# Altium schematic symbol library Connector.SchLib: 55 symbols
Pins are listed as number, name and electrical type; pins without a type are passive.

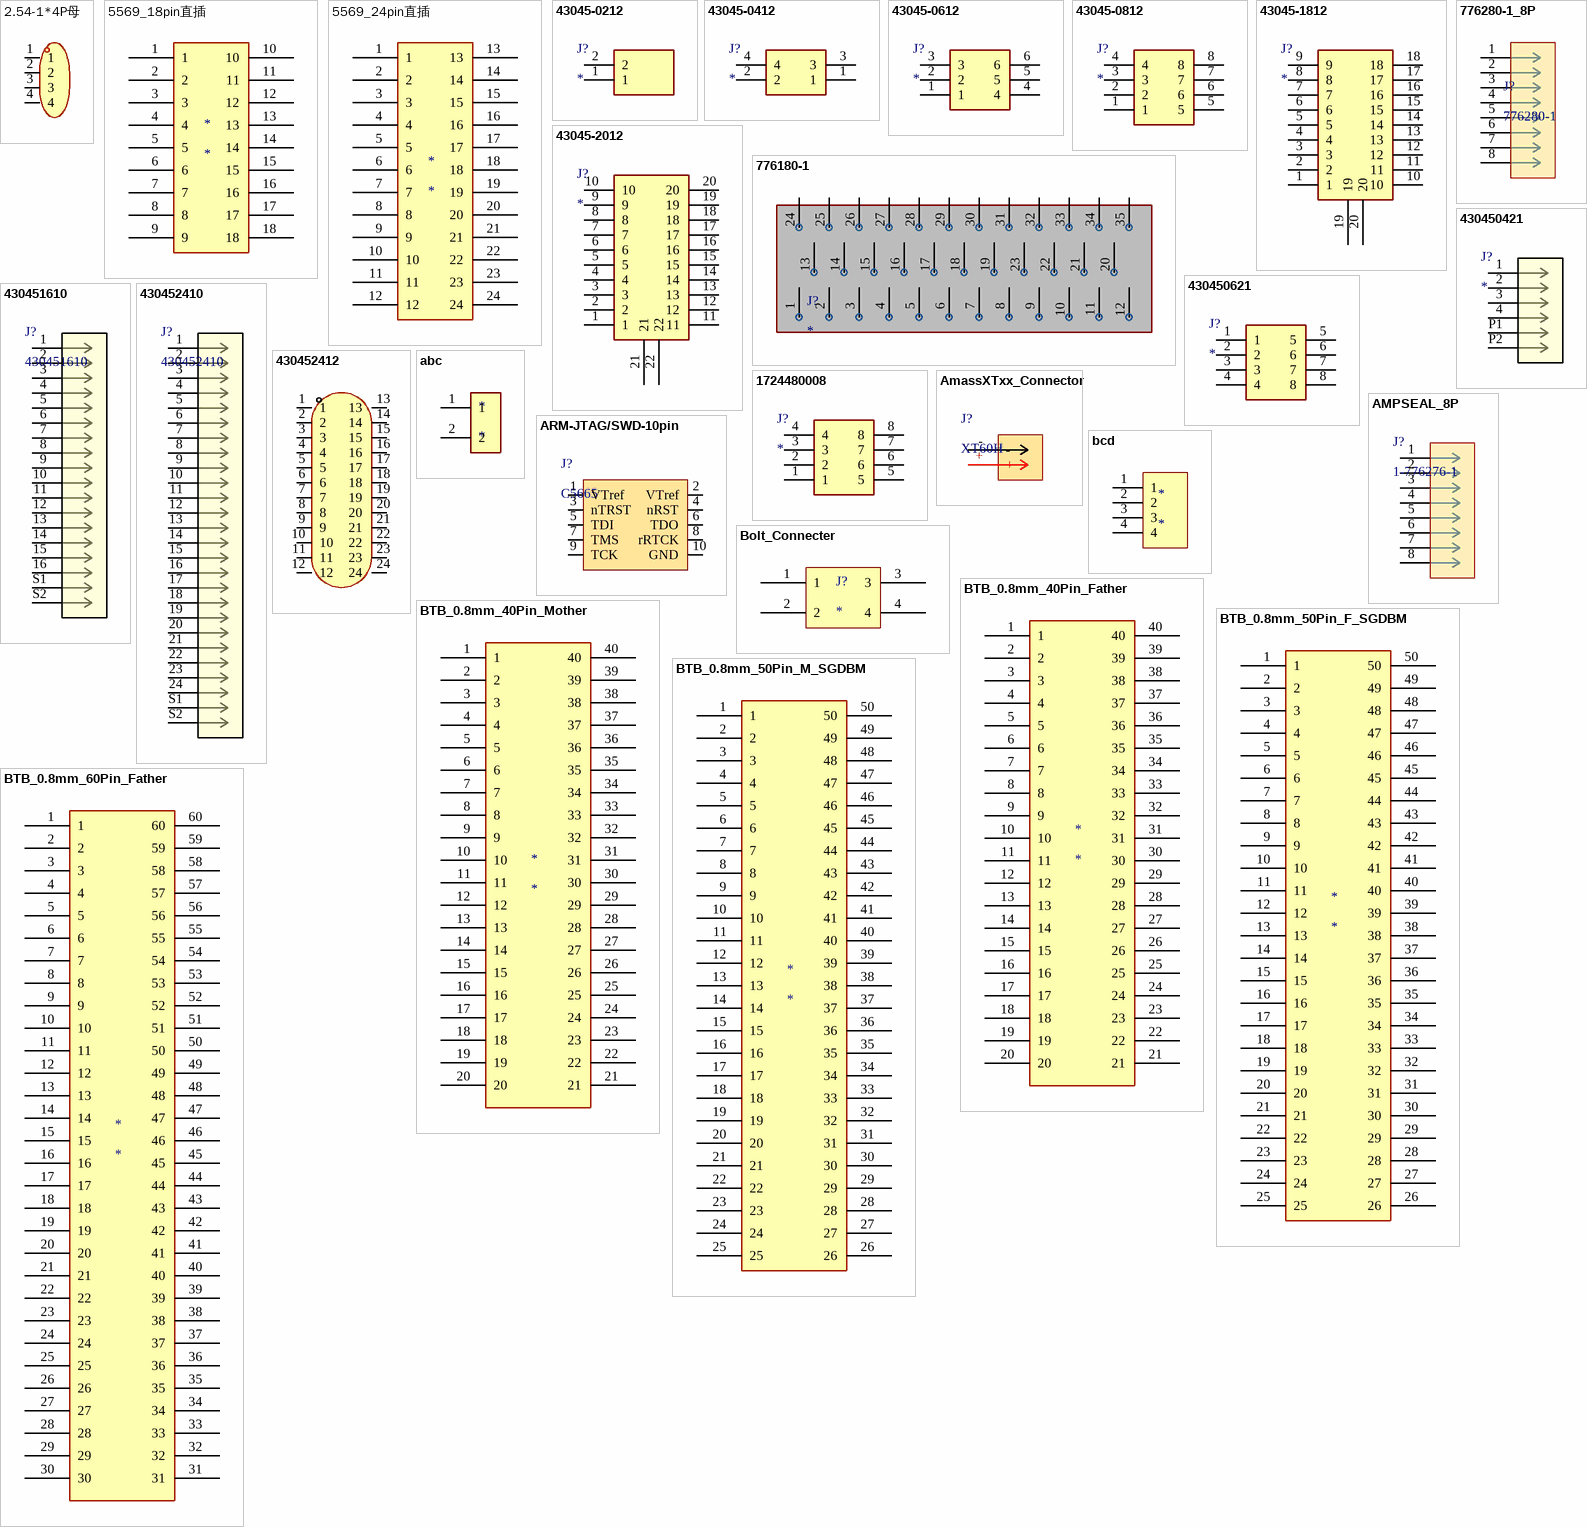
[diagram p0: symbols 2.54-1*4P母 to BTB_0.8mm_60Pin_Father]

## 2.54-1*4P母
designator H??  (value not drawn)
立创编号：C2718488; Manufacturer: BOOMELE(博穆精密); Add into BOM: yes; Holes Structure: 1x4P; Pitch: 2.54mm; Circular Hole / Square Hole: 方孔; Number of Holes: 4P; Current Rating (Max): 3A; Holes Direction: 顶部; Symbol: 2.54-1*4P母; Device: 2.54-1*4P母; Supplier: LCSC; Supplier Part: C2718488; Manufacturer Part: 2.54-1*4P母; JLCPCB Part Class: Extended Part; LCSC Part Name: 间距:2.54mm 1x4P 直插; Supplier Footprint: 插件,P=2.54mm; Datasheet: https://atta.szlcsc.com/upload/public/pdf/source/20210301/C2718488_F4427B881E42CAA8DDB0B1C12B3A522C.pdf; Convert to PCB: yes; Row Spacing: -; Mounting Type: 直插; Number of Rows: 单排; Voltage Rating (Max): -; Insulation Height: -; Contact Material: 青铜; Contact Plating: -; Operating Temperature Range: -40℃~+105℃; Soldering Temperature(Max): -
footprint HDR-TH_4P-P2.54-V-F
pins: 1, 2, 3, 4

## 5569_18pin直插
designator *
footprint 5569_18Pin (5569直插18PIN)
pins: 1, 2, 3, 4, 5, 6, 7, 8, 9, 10, 11, 12, 13, 14, 15, 16, 17, 18

## 5569_24pin直插
designator *
footprint 5569_24PIN (5569直插24pin)
pins: 1, 2, 3, 4, 5, 6, 7, 8, 9, 10, 11, 12, 13, 14, 15, 16, 17, 18, 19, 20, 21, 22, 23, 24

## 43045-0212
designator J?
Connector; Manufacturer_Name: Molex; Manufacturer_Part_Number: 43045-0212; Datasheet Link: https://www.molex.com/pdm_docs/sd/430450612_sd.pdf; Height: 9.91mm; Mouser Part Number: 538-430-45-0212; Mouser Price/Stock: https://www.mouser.co.uk/ProductDetail/Molex/43045-0212?qs=QtQX4uD3c2XFLtjr%252BHeRmQ%3D%3D
footprint 43045-02YY_121314
pins: 1, 2

## 43045-0412
designator J?
Connector; Manufacturer_Name: Molex; Manufacturer_Part_Number: 43045-0412; Datasheet Link: https://www.molex.com/pdm_docs/sd/430450612_sd.pdf; Height: 9.91mm; Mouser Part Number: 538-43045-0412; Mouser Price/Stock: https://www.mouser.co.uk/ProductDetail/Molex/43045-0412?qs=UeCeOHRHQebPBbEMDLocEw%3D%3D; Arrow Part Number: 43045-0412; Arrow Price/Stock: http://www.arrow.com/en/products/43045-0412/molex
footprint 43045-04YY_121314
pins: 1, 2, 3, 4

## 43045-0612
designator J?
Connector; Manufacturer_Name: Molex; Manufacturer_Part_Number: 43045-0612; Datasheet Link: https://www.molex.com/pdm_docs/sd/430450612_sd.pdf; Height: 9.91mm; Mouser Part Number: 538-43045-0612; Mouser Price/Stock: https://www.mouser.co.uk/ProductDetail/Molex/43045-0612?qs=KC2ywxza1kqWo9LLJ5Lh3w%3D%3D; Arrow Part Number: 43045-0612; Arrow Price/Stock: https://www.arrow.com/en/products/43045-0612/molex?region=nac
footprint 43045-06YY_121314
pins: 1, 2, 3, 4, 5, 6

## 43045-0812
designator J?
Connector; Manufacturer_Name: Molex; Manufacturer_Part_Number: 43045-0812; Datasheet Link: https://www.molex.com/pdm_docs/sd/430450612_sd.pdf; Height: 9.91mm; Mouser Part Number: 538-43045-0812; Mouser Price/Stock: https://www.mouser.co.uk/ProductDetail/Molex/43045-0812?qs=qjii0NTOo%252B4%252BsykjI9icjA%3D%3D; Arrow Part Number: 43045-0812; Arrow Price/Stock: https://www.arrow.com/en/products/43045-0812/molex?region=nac
footprint 43045-08YY_121314
pins: 1, 2, 3, 4, 5, 6, 7, 8

## 43045-1812
designator J?
Connector; Manufacturer_Name: Molex; Manufacturer_Part_Number: 43045-1812; Datasheet Link: https://www.molex.com/pdm_docs/sd/430450612_sd.pdf; Height: 9.91mm; Mouser Part Number: 538-43045-1812; Mouser Price/Stock: https://www.mouser.co.uk/ProductDetail/Molex/43045-1812?qs=mrPiglD9aYKqQsv7cU%2F4pg%3D%3D
footprint 43045-18YY_121314
pins: 1, 2, 3, 4, 5, 6, 7, 8, 9, 10, 11, 12, 13, 14, 15, 16, 17, 18, 19, 20

## 43045-2012
designator J?
Connector; Manufacturer_Name: Molex; Manufacturer_Part_Number: 43045-2012; Datasheet Link: https://www.molex.com/pdm_docs/sd/430450612_sd.pdf; Height: 9.91mm; Mouser Part Number: 538-43045-2012; Mouser Price/Stock: https://www.mouser.co.uk/ProductDetail/Molex/43045-2012?qs=UeCeOHRHQeaNtH3DnNjSvA%3D%3D
footprint 43045-20YY_121314
pins: 1, 2, 3, 4, 5, 6, 7, 8, 9, 10, 11, 12, 13, 14, 15, 16, 17, 18, 19, 20, 21, 22

## 776180-1
designator J?
Connector ampseal 35pin; Manufacturer_Name: TE Connectivity; Manufacturer_Part_Number: 1-776180-1; Datasheet Link: https://datasheet.datasheetarchive.com/originals/distributors/Datasheets-DGA22/2139312.pdf; Height: 28.6mm; Mouser Part Number: 571-1-776180-1; Mouser Price/Stock: https://www.mouser.co.uk/ProductDetail/TE-Connectivity-AMP/1-776180-1?qs=3aug5cyrIbeXXPMJFPzneQ%3D%3D; Arrow Part Number: 1-776180-1; Arrow Price/Stock: https://www.arrow.com/en/products/1-776180-1/te-connectivity?region=nac
footprint 17761801
pins: 1, 2, 3, 4, 5, 6, 7, 8, 9, 10, 11, 12, 13, 14, 15, 16, 17, 18, 19, 20, 21, 22, 23, 24, 25, 26, 27, 28, 29, 30, 31, 32, 33, 34, 35

## 776280-1_8P
designator J?, comment 776280-1
No Description Available; Mfr_Name: TE Connectivity; Type: DEV; Copyright: Copyright (C) 2023 Ultra Librarian. All rights reserved.; Manufacturer_Part_Number: 776280-1; RefDes: RefDes
footprint CONN8_776280_TEC
pins: 1, 2, 3, 4, 5, 6, 7, 8

## 430450421
designator J?
No Description Available; Mfr_Name: Molex Connector Corporation; voltage_rating: 600V; RefDes: RefDes; Type: Type
footprint CON_430450421_MOL
pins: 1, 2, 3, 4, P1, P2

## 430450621
designator J?
Connector; Manufacturer_Name: Molex; Manufacturer_Part_Number: 43045-0621; Datasheet Link: https://www.molex.com/pdm_docs/sd/430450221_sd.pdf; Height: 8.77mm; Mouser Part Number: 538-43045-0621; Mouser Price/Stock: https://www.mouser.co.uk/ProductDetail/Molex/43045-0621?qs=mrPiglD9aYJa%252BFif2q2CEg%3D%3D
footprint CON_430450621_MOL
pins: 1, 2, 3, 4, 5, 6, 7, 8

## 430451610
designator J?
Micro-Fit 3.0 Right-Angle Header, 3.00mm Pitch, Dual Row, 16 Circuits, with Solder Tab, Gold, Glow-Wire Capable, Black, Tape and Reel; Mfr_Name: Molex Connector Corporation; Copyright: Copyright (C) 2023 Ultra Librarian. All rights reserved.; Manufacturer_Part_Number: 430451610; RefDes: RefDes; Type: DEV
footprint CON_430451610_MOL
pins: 1, 2, 3, 4, 5, 6, 7, 8, 9, 10, 11, 12, 13, 14, 15, 16, S1, S2

## 430452410
designator J?
No Description Available; Mfr_Name: Molex Connector Corporation; Copyright: Copyright (C) 2023 Ultra Librarian. All rights reserved.; Manufacturer_Part_Number: 430452410; RefDes: RefDes; Type: DEV
footprint CON_430452410_MOL
pins: 1, 2, 3, 4, 5, 6, 7, 8, 9, 10, 11, 12, 13, 14, 15, 16, 17, 18, 19, 20, 21, 22, 23, 24, S1, S2

## 430452412
designator CN??  (value not drawn)
Manufacturer: MOLEX; Add into BOM: yes; Pins Structure: 2x12P; Pitch: 3mm; Gender: 母; Number of PINs Per Row: 12; Name: 430452412; Symbol: 430452412; Device: 430452412; LCSC Part Name: 2x12P 间距:3mm 直插; Supplier Part: C503479; Manufacturer Part: 430452412; Supplier Footprint: 插件,P=3mm; JLCPCB Part Class: Extended Part; Datasheet: https://atta.szlcsc.com/upload/public/pdf/source/20190109/C277661_3F0D49BC1CAA2F94417E80665E96A2EF.pdf; Supplier: LCSC; Convert to PCB: yes; Mounting Style: 直插; Row Spacing: 3mm; Number of Rows: 2; Reference Series: -; Current Rating (Max): -; Operating Temperature Range: -
footprint CONN-TH_430452412
3D model CONN-TH_430452412
pins: 1, 2, 3, 4, 5, 6, 7, 8, 9, 10, 11, 12, 13, 14, 15, 16, 17, 18, 19, 20, 21, 22, 23, 24

## 1724480008
designator J?
Connector; Manufacturer_Name: Molex; Manufacturer_Part_Number: 172448-0008; Datasheet Link: https://www.molex.com/pdm_docs/sd/1724480002_sd.pdf; Height: 10.38mm; Mouser Part Number: 538-172448-0008; Mouser Price/Stock: https://www.mouser.co.uk/ProductDetail/Molex/172448-0008?qs=UxK%2FDTs6dB7jZKhTV9GsIA%3D%3D
footprint 1724480008
pins: 1, 2, 3, 4, 5, 6, 7, 8

## abc
designator *
footprint abc
pins: 1, 2

## AmassXTxx_Connector
designator J?, comment XT60H
Type: XT60H
footprint AMASS_XT60PW_F
footprint AMASS_XT60PW_M
footprint AMASS_XT60_NOMAL
pins: +, -

## AMPSEAL_8P
designator J?, comment 1-776276-1
No Description Available; Mfr_Name: TE Connectivity; Type: 1-776276-1; Copyright: Copyright (C) 2021 Ultra Librarian. All rights reserved.; Manufacturer_Part_Number: 1-776276-1; RefDes: RefDes
footprint AMPSEAL_8P_VERT
pins: 1, 2, 3, 4, 5, 6, 7, 8

## ARM-JTAG/SWD-10pin
designator J?, comment C5665
Standard 10pin JTAG/SWD inerface; Type: C5665
footprint ARM_JTAG/SWD_10pin
pins: 1 VTref, 2 VTref, 3 nTRST, 4 nRST, 5 TDI, 6 TDO, 7 TMS, 8 rRTCK, 9 TCK, 10 GND

## bcd
designator *
footprint bcd
pins: 1, 2, 3, 4

## Bolt_Connecter
designator J?
footprint Bolt_Connecter
pins: 1, 2, 3, 4

## BTB_0.8mm_40Pin_Father
designator *
footprint BTB_0.8mm_40PIN_F (0.8单槽板对板公母座合高5.0，母座，40PIN)
pins: 1, 2, 3, 4, 5, 6, 7, 8, 9, 10, 11, 12, 13, 14, 15, 16, 17, 18, 19, 20, 21, 22, 23, 24, 25, 26, 27, 28, 29, 30, 31, 32, 33, 34, 35, 36, 37, 38, 39, 40

## BTB_0.8mm_40Pin_Mother
designator *
footprint BTB_0.8mm_40PIN_M (0.8单槽板对板公母座合高5.0，公座，40PIN)
pins: 1, 2, 3, 4, 5, 6, 7, 8, 9, 10, 11, 12, 13, 14, 15, 16, 17, 18, 19, 20, 21, 22, 23, 24, 25, 26, 27, 28, 29, 30, 31, 32, 33, 34, 35, 36, 37, 38, 39, 40

## BTB_0.8mm_50Pin_F_SGDBM
designator *
footprint HEADER_0.8mm_2x25P_G (0.8间距2x25P公座，SMD)
pins: 1, 2, 3, 4, 5, 6, 7, 8, 9, 10, 11, 12, 13, 14, 15, 16, 17, 18, 19, 20, 21, 22, 23, 24, 25, 26, 27, 28, 29, 30, 31, 32, 33, 34, 35, 36, 37, 38, 39, 40, 41, 42, 43, 44, 45, 46, 47, 48, 49, 50

## BTB_0.8mm_50Pin_M_SGDBM
designator *
footprint HEADER_0.8mm_2x25P_G (0.8间距2x25P公座，SMD)
pins: 1, 2, 3, 4, 5, 6, 7, 8, 9, 10, 11, 12, 13, 14, 15, 16, 17, 18, 19, 20, 21, 22, 23, 24, 25, 26, 27, 28, 29, 30, 31, 32, 33, 34, 35, 36, 37, 38, 39, 40, 41, 42, 43, 44, 45, 46, 47, 48, 49, 50

## BTB_0.8mm_60Pin_Father
designator *
footprint BTB_0.8mm_60PIN_F (0.8单槽板对板公母座合高5.0，母座，60PIN)
pins: 1, 2, 3, 4, 5, 6, 7, 8, 9, 10, 11, 12, 13, 14, 15, 16, 17, 18, 19, 20, 21, 22, 23, 24, 25, 26, 27, 28, 29, 30, 31, 32, 33, 34, 35, 36, 37, 38, 39, 40, 41, 42, 43, 44, 45, 46, 47, 48, 49, 50, 51, 52, 53, 54, 55, 56, 57, 58, 59, 60

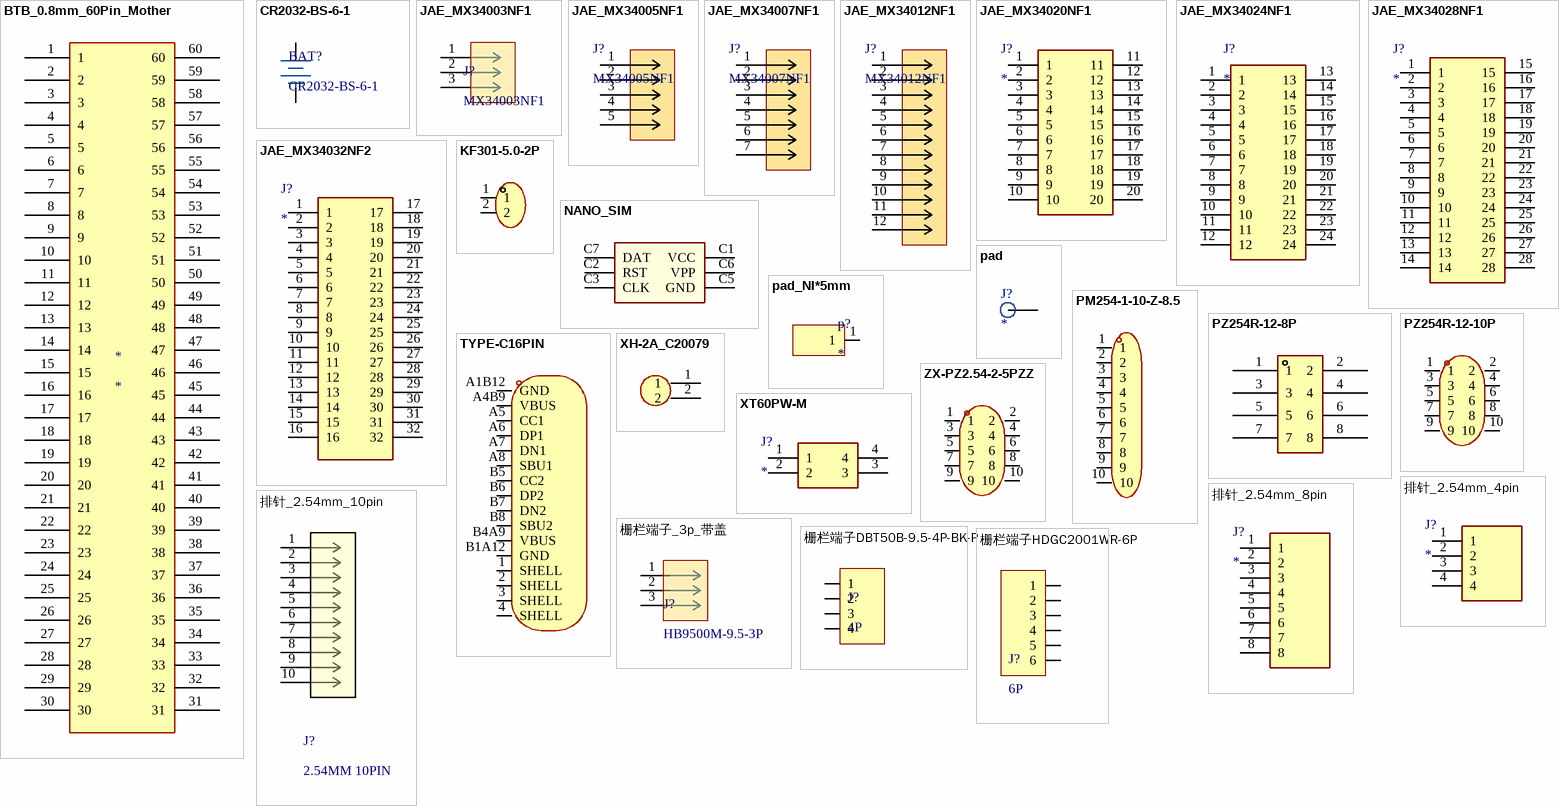
[diagram p1: symbols BTB_0.8mm_60Pin_Mother to 栅栏端子HDGC2001WR-6P]

## BTB_0.8mm_60Pin_Mother
designator *
footprint BTB_0.8mm_60PIN_M (0.8单槽板对板公母座合高5.0，公座，60PIN)
pins: 1, 2, 3, 4, 5, 6, 7, 8, 9, 10, 11, 12, 13, 14, 15, 16, 17, 18, 19, 20, 21, 22, 23, 24, 25, 26, 27, 28, 29, 30, 31, 32, 33, 34, 35, 36, 37, 38, 39, 40, 41, 42, 43, 44, 45, 46, 47, 48, 49, 50, 51, 52, 53, 54, 55, 56, 57, 58, 59, 60

## CR2032-BS-6-1
designator BAT?
CR2032 Battery Holder; Type: CR2032-BS-6-1
footprint CR2032-BS-6-1
pins: 1 -, 2 +

## JAE_MX34003NF1
designator J?, comment MX34003NF1
3P_JAE_connector
footprint JAE_MX34003NF1
pins: 1, 2, 3

## JAE_MX34005NF1
designator J?, comment MX34005NF1
No Description Available; Mfr_Name: JAE Electronics; Manufacturer_Part_Number: MX34012NF1; Copyright: Copyright (C) 2021 Ultra Librarian. All rights reserved.; RefDes: RefDes; Type: DEV
footprint JAE_MX34005NF1
pins: 1, 2, 3, 4, 5

## JAE_MX34007NF1
designator J?, comment MX34007NF1
No Description Available; Mfr_Name: JAE Electronics; Manufacturer_Part_Number: MX34012NF1; Copyright: Copyright (C) 2021 Ultra Librarian. All rights reserved.; RefDes: RefDes; Type: DEV
footprint JAE_MX34007NF1
pins: 1, 2, 3, 4, 5, 6, 7

## JAE_MX34012NF1
designator J?, comment MX34012NF1
No Description Available; Mfr_Name: JAE Electronics; Copyright: Copyright (C) 2021 Ultra Librarian. All rights reserved.; Manufacturer_Part_Number: MX34012NF1; RefDes: RefDes; Type: DEV
footprint JAE_MX34012NF1
pins: 1, 2, 3, 4, 5, 6, 7, 8, 9, 10, 11, 12

## JAE_MX34020NF1
designator J?
Connector; Manufacturer_Name: JAPAN AVIATION ELECTRONICS INDUSTRY; Manufacturer_Part_Number: MX34020NF1; Datasheet Link: https://www.jae.com/direct/topics/topics_file_download/?topics_id=64920&ext_no=06&index=0&_lang=en; Height: 16.4mm
footprint JEA_MX34020NF1
pins: 1, 2, 3, 4, 5, 6, 7, 8, 9, 10, 11, 12, 13, 14, 15, 16, 17, 18, 19, 20

## JAE_MX34024NF1
designator J?
Connector; Manufacturer_Name: JAE Electronics; Manufacturer_Part_Number: MX34024NF1; Datasheet Link: https://datasheet.datasheetarchive.com/originals/distributors/Datasheets_SAMA/d96b4f8e0a256f0afb214c91375c2c74.pdf; Height: 16mm; Mouser Part Number: 656-MX34024NF1; Mouser Price/Stock: https://www.mouser.co.uk/ProductDetail/JAE-Electronics/MX34024NF1?qs=jTL5mzL44Uyb8bLd46uiRA%3D%3D
footprint JAE_MX34024NF1
pins: 1, 2, 3, 4, 5, 6, 7, 8, 9, 10, 11, 12, 13, 14, 15, 16, 17, 18, 19, 20, 21, 22, 23, 24

## JAE_MX34028NF1
designator J?
Connector; Manufacturer_Name: JAE Electronics; Manufacturer_Part_Number: MX34028NF1; Datasheet Link: https://www.digikey.com/product-detail/en/jae-electronics/MX34028NF1/670-1791-ND/1969212; Height: 16.4mm; Mouser Part Number: 656-MX34028NF1; Mouser Price/Stock: https://www.mouser.com/Search/Refine.aspx?Keyword=656-MX34028NF1
footprint JAE_MX34028NF1
pins: 1, 2, 3, 4, 5, 6, 7, 8, 9, 10, 11, 12, 13, 14, 15, 16, 17, 18, 19, 20, 21, 22, 23, 24, 25, 26, 27, 28

## JAE_MX34032NF2
designator J?
Connector; Manufacturer_Name: JAE Electronics; Manufacturer_Part_Number: MX34032NF2; Datasheet Link: https://www.jae.com/en/connectors/series/detail/product/id=64941; Height: 16.5mm; Mouser Part Number: 656-MX34032NF2; Mouser Price/Stock: https://www.mouser.co.uk/ProductDetail/JAE-Electronics/MX34032NF2?qs=P1rOgYsovGBF8RIqP1VdIg%3D%3D
footprint JAE_MX34032NF2
pins: 1, 2, 3, 4, 5, 6, 7, 8, 9, 10, 11, 12, 13, 14, 15, 16, 17, 18, 19, 20, 21, 22, 23, 24, 25, 26, 27, 28, 29, 30, 31, 32

## KF301-5.0-2P
designator U??  (value not drawn)
螺钉式接线端子 C474881; Manufacturer: KEFA(科发); Add into BOM: yes; Structure: 1x2P; Pitch: 5mm; Current Rating (Max): 17A; Voltage Rating (Max): 250V; Wire Gauge - AWG: 14~22; Wire Gauge - mm2: 1.5; Number of PINs Per Row: 2; Symbol: KF301-5.0-2P; Device: KF301-5.0-2P; Supplier: LCSC; Supplier Part: C474881; Manufacturer Part: KF301-5.0-2P; JLCPCB Part Class: Extended Part; LCSC Part Name: 5mm 1x2P 排数:1 每排P数:2 直插; Supplier Footprint: 插件,P=5mm; Datasheet: https://atta.szlcsc.com/upload/public/pdf/source/20230317/03A5B5FC229D6F9225E8F51DA1A4E80A.pdf; Convert to PCB: yes; Color: 蓝色; Mounting Style: 直插; Number of Pins: 2P; Number of Rows: 1; Operating Temperature Range: -30℃~+120℃
footprint CONN-TH_P5.00_KF301-5.0-2P
pins: 1, 2

## NANO_SIM
designator SIM??  (value not drawn)
NANO_SIM----; Manufacturer: Boom Precision Elec; Add into BOM: yes; Name: NANO_SIM; Symbol: NANO_SIM; Device: NANO_SIM; Supplier: LCSC; Supplier Part: C77877; Manufacturer Part: -; JLCPCB Part Class: Extended Part; Convert to PCB: yes
footprint NANO_SIM
pins: C1 VCC, C2 RST, C3 CLK, C5 GND, C6 VPP, C7 DAT

## pad
designator J?
footprint pad
pins: 0

## pad_NI*5mm
designator p?
镍带5mm用焊盘
footprint pad_NI*5mm
pins: 1

## PM254-1-10-Z-8.5
designator U??  (value not drawn)
C2897373 排母; Manufacturer: HCTL(华灿天禄); Add into BOM: yes; Holes Structure: 1x10P; Pitch: 2.54mm; Circular Hole / Square Hole: 方孔; Number of Holes: 10P; Current Rating (Max): 3A; Holes Direction: 顶部; Soldering Temperature(Max): 260℃@5S; Symbol: PM254-1-10-Z-8.5; Device: PM254-1-10-Z-8.5; LCSC Part Name: 1x10P 间距:2.54mm 直插; Supplier Part: C2897373; Manufacturer Part: PM254-1-10-Z-8.5; Supplier Footprint: 插件,P=2.54mm; JLCPCB Part Class: Extended Part; Datasheet: https://atta.szlcsc.com/upload/public/pdf/source/20230609/534BE42964C679BDE98E061007C4ABD6.pdf; Supplier: LCSC; Convert to PCB: yes; Row Spacing: -; Mounting Type: 直插; Number of Rows: 单排; Voltage Rating (Max): -; Insulation Height: 8.5mm; Contact Material: 铜合金; Operating Temperature Range: -40℃~+105℃
footprint HDR-TH_10P-P2.54-V-F
pins: 1, 2, 3, 4, 5, 6, 7, 8, 9, 10

## PZ254R-12-8P
designator H??  (value not drawn)
弯角排针2*4P 立创编号：C492432; Manufacturer: XFCN(兴飞); Add into BOM: yes; Pitch: 2.54mm; Pin Structure: 2x4P; Circluar Pins/Square Pins: 方针; Name: PZ254R-12-8P; Symbol: PZ254R-12-8P; Device: PZ254R-12-8P; LCSC Part Name: 2.54mm 2x4P 弯插 方针; Supplier Part: C492432; Manufacturer Part: PZ254R-12-8P; Supplier Footprint: 弯插,P=2.54mm; JLCPCB Part Class: Extended Part; Datasheet: https://atta.szlcsc.com/upload/public/pdf/source/20200309/C492432_F55471C7391A7FE3415CB31C718B6320.pdf; Supplier: LCSC; Convert to PCB: yes; Number of Rows: 双排; Number of Pins: 8P; Row Spacing: 2.54mm; Mounting Type: 弯插; Current Rating (Max): -; Voltage Rating (Max): -; Length of Mating Pin: 6mm; Insulation Height: 2.5mm; Contact Material: 黄铜; Contact Plating: -; Operating Temperature Range: -40℃~+105℃; Color: 黑色
footprint HDR-TH_8P-P2.54-H-M-R2-C4-S2.54
3D model HDR-TH_8P-P2.54-M-WI-2X4P
pins: 1, 2, 3, 4, 5, 6, 7, 8

## PZ254R-12-10P
designator H??  (value not drawn)
弯角排针2*5P 立创编号：C492433; Manufacturer: XFCN(兴飞); Add into BOM: yes; Pin Structure: 2x5P; Pitch: 2.54mm; Circluar Pins/Square Pins: 方针; Symbol: PZ254R-12-10P; Device: PZ254R-12-10P; LCSC Part Name: 间距:2.54mm 2x5P 弯插 方针; Supplier Part: C492433; Manufacturer Part: PZ254R-12-10P; Supplier Footprint: 弯插,P=2.54mm; JLCPCB Part Class: Extended Part; Datasheet: https://atta.szlcsc.com/upload/public/pdf/source/20200309/C492433_E1DF9BC45CD746DC26B2517D82EEBDA7.pdf; Supplier: LCSC; Convert to PCB: yes; Row Spacing: 2.54mm; Mounting Type: 弯插; Number of Rows: 双排; Number of Pins: 10P; Current Rating (Max): -; Voltage Rating (Max): -; Length of Mating Pin: 6mm; Insulation Height: 2.5mm; Contact Material: 黄铜; Contact Plating: -; Operating Temperature Range: -40℃~+105℃; Color: 黑色
footprint HDR-TH_10P-P2.54-H-M-R2-C5-S2.54
pins: 1, 2, 3, 4, 5, 6, 7, 8, 9, 10

## TYPE-C16PIN
designator USB??  (value not drawn)
C393939; Manufacturer: SHOU HAN(首韩); Add into BOM: yes; Connector Type: Type-C; Gender: 母; Number of Ports: 1; Number of Contacts: 16P; Current Rating - Power (Max): 3A; Symbol: TYPE-C16PIN; Device: TYPE-C16PIN; Supplier: LCSC; Supplier Part: C393939; Manufacturer Part: TYPE-C16PIN; JLCPCB Part Class: Extended Part; LCSC Part Name: Type-C 母 卧贴; Supplier Footprint: SMD; Datasheet: https://atta.szlcsc.com/upload/public/pdf/source/20190521/C393939_7B9043D4CF1026AF443AB60D91FBCD5C.pdf; Convert to PCB: yes; Standard: -; Mounting Style: 卧贴; Operating Temperature Range: -40℃~+85℃
footprint USB-C-SMD_TYPE-C16PIN
pins: 1 SHELL, 2 SHELL, 3 SHELL, 4 SHELL, A1B12 GND, A4B9 VBUS, A5 CC1, A6 DP1, A7 DN1, A8 SBU1, B1A12 GND, B4A9 VBUS, B5 CC2, B6 DP2, B7 DN2, B8 SBU2

## XH-2A_C20079
designator CN??, comment XH-2A  (value not drawn)
Manufacturer: BOOMELE(博穆精密); Device: XH-2A_C20079; Add into BOM: yes; Pins Structure: 1x2P; Pitch: 2.5mm; Reference Series: XH; Number of PINs Per Row: 2; Name: XH-2A; Symbol: XH-2A; LCSC Part Name: 系列:XH 间距:2.5mm 1x2P; Supplier Part: C20079; Manufacturer Part: XH-2A; Supplier Footprint: 插件,P=2.5mm; JLCPCB Part Class: Extended Part; Datasheet: https://atta.szlcsc.com/upload/public/pdf/source/20151225/1457707654857.pdf; Supplier: LCSC; Convert to PCB: yes; Mounting Style: -; Number of Pins: 2P; Number of Rows: 1; Row Spacing: -; Contact Material: -
footprint CONN-TH_XH-2A
3D model XH2.5-2A
pins: 1, 2

## XT60PW-M
designator J?
Connector; Manufacturer_Name: Changzou Amass Elec; Manufacturer_Part_Number: XT60PW-M; Datasheet Link: https://www.tme.eu/Document/9b8d0c5eb7094295f3d3112c214d3ade/XT60PW%20SPEC.pdf; Height: 8.4mm
footprint XT60PWM
pins: 1, 2, 3, 4

## ZX-PZ2.54-2-5PZZ
designator U??  (value not drawn)
直插排针，立创编号：C7501276; Manufacturer: Megastar(兆星); Add into BOM: yes; Pin Structure: 2x5P; Pitch: 2.54mm; Circluar Pins/Square Pins: 方针; Current Rating (Max): 3A; Voltage Rating (Max): 1kV; Soldering Temperature(Max): 260℃@5s; Symbol: ZX-PZ2.54-2-5PZZ; Device: ZX-PZ2.54-2-5PZZ; Supplier: LCSC; Supplier Part: C7501276; Manufacturer Part: ZX-PZ2.54-2-5PZZ; JLCPCB Part Class: Extended Part; LCSC Part Name: 间距:2.54mm 2x5P 直插 方针; Supplier Footprint: 插件,P=2.54mm; Datasheet: https://atta.szlcsc.com/upload/public/pdf/source/20231122/7DD2FA5A7FDBC10CDDB6051CB6BC6AD1.pdf; Convert to PCB: yes; Row Spacing: 2.54mm; Mounting Type: 直插; Number of Rows: 双排; Number of Pins: 5P; Length of Mating Pin: 6mm; Insulation Height: 2.5mm; Length of End Connection Pin: 3mm; Contact Material: 黄铜; Contact Plating: 金; Operating Temperature Range: -40℃~+105℃; Color: 黑色
footprint HDR-TH_10P-P2.54-V-M-R2-C5-S2.54
pins: 1, 2, 3, 4, 5, 6, 7, 8, 9, 10

## 排针_2.54mm_4pin
designator J?
Connector; Manufacturer_Name: Molex; Manufacturer_Part_Number: 0022032041; Datasheet Link: http://www.molex.com/pdm_docs/sd/022032041_sd.pdf; Height: 11.55mm; Mouser Part Number: N/A; Mouser Price/Stock: https://www.mouser.co.uk/ProductDetail/Molex/0022032041?qs=PBcRNPEHKsrt5pJfEqGMHQ%3D%3D; Arrow Part Number: 0022032041; Arrow Price/Stock: https://www.arrow.com/en/products/0022032041/molex?region=europe
footprint HDR1X4_2.54_1mm
pins: 1, 2, 3, 4

## 排针_2.54mm_8pin
designator J?
Connector; Manufacturer_Name: ARIES; Manufacturer_Part_Number: 08-0625-70; Datasheet Link: https://www.mouser.in/datasheet/2/35/12036-pin-line-header-1224908.pdf; Height: 8.16mm; Mouser Part Number: 535-08-0625-70; Mouser Price/Stock: https://www.mouser.co.uk/ProductDetail/Aries-Electronics/08-0625-70?qs=BpaRKvA4VqGb7C%252By2JfgtQ%3D%3D
footprint HDR1X8_2.54_0.7mm
pins: 1, 2, 3, 4, 5, 6, 7, 8

## 排针_2.54mm_10pin
designator J?, comment 2.54MM 10PIN
footprint HDR1X10_2.54_1mm
pins: 1, 2, 3, 4, 5, 6, 7, 8, 9, 10

## 栅栏端子_3p_带盖
designator J?, comment HB9500M-9.5-3P
ComponentLink1Description: buy link; ComponentLink1URL: https://item.szlcsc.com/174078.html; Type: HB9500M-9.5-3P
footprint HB9500M-9.5-3P
pins: 1, 2, 3

## 栅栏端子DBT50B-9.5-4P-BK-P
designator J?, comment 4P
footprint DBT50B-9.5-4P-BK-P
pins: 1, 2, 3, 4

## 栅栏端子HDGC2001WR-6P
designator J?, comment 6P
PH2.0弯针 6P; ComponentLink1Description: New link; ComponentLink1URL: https://item.szlcsc.com/5828846.html
footprint CONN-TH_6P-P2.00_HDGC_HDGC2001WR-6P
pins: 1, 2, 3, 4, 5, 6